# EAGLE library part LTC2436-1 (library wheat)
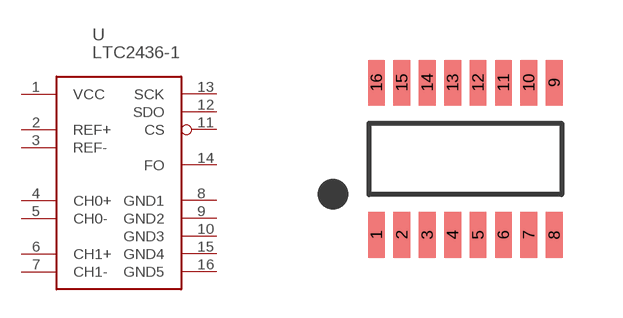
[diagram p177: symbol with the pads of SSOP16; footprint SSOP16]

Designator prefix U

## LTC2436-1GN  [SSOP16]
1  VCC  pas
2  REF+  in
3  REF-  in
4  CH0+  in
5  CH0-  in
6  CH1+  in
7  CH1-  in
8  GND1  pas
9  GND2  pas
10  GND3  pas
11  CS  in
12  SDO
13  SCK  in
14  FO  in
15  GND4  pas
16  GND5  pas

## Footprint SSOP16 (pad centres in mm)
smd 0.419 x 1.143: 1 -2.223,-1.905; 2 -1.587,-1.905; 3 -0.953,-1.905; 4 -0.318,-1.905; 5 0.318,-1.905; 6 0.953,-1.905; 7 1.587,-1.905; 8 2.223,-1.905; 9 2.223,1.905; 10 1.587,1.905; 11 0.953,1.905; 12 0.318,1.905; 13 -0.318,1.905; 14 -0.953,1.905; 15 -1.587,1.905; 16 -2.223,1.905